# EAGLE library part VNS3NV04D (library PNP)
Dual Protected MOSFET from OMNIFET family, 3A
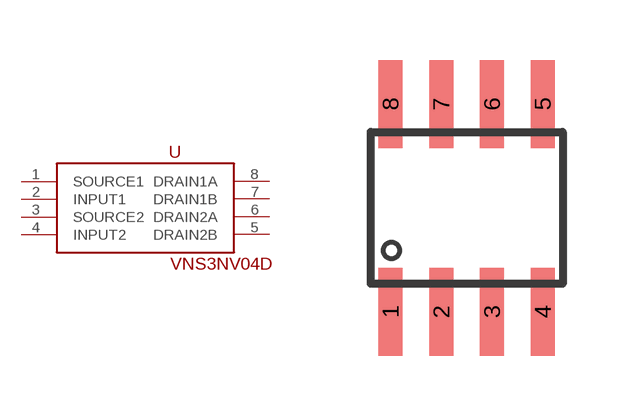
[diagram p8: symbol with the pads of SO8; footprint SO8]

Designator prefix -

## VNS3NV04D (DIGIKEY: 497-3318-1-ND; MFN: VNS3NV04D13TR)  [SO8]
1  SOURCE1
2  INPUT1  in
3  SOURCE2
4  INPUT2  in
5  DRAIN2B
6  DRAIN2A
7  DRAIN1B
8  DRAIN1A

## Footprint SO8 (pad centres in mm)
8-Lead Small Outline IC (SO-8) Source: http://www.analog.com/UploadedFiles/Data_Sheets/703465986AD8611_2_0.pdf
smd 0.6 x 2.2: 1 -1.905,-2.6; 2 -0.635,-2.6; 3 0.635,-2.6; 4 1.905,-2.6; 5 1.905,2.6; 6 0.635,2.6; 7 -0.635,2.6; 8 -1.905,2.6